# Altium schematic symbol library LM5071.SchLib: 1 symbol
Pins are listed as number, name and electrical type; pins without a type are passive.

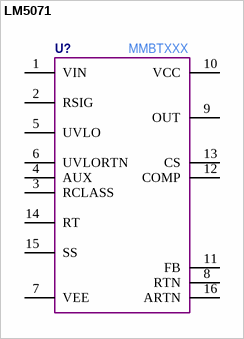
[diagram p0: symbol LM5071]

## LM5071
designator U?  Manufacturer Part Number: MMBTXXX  (hidden comment: *)
pins: 1 VIN, 2 RSIG, 3 RCLASS, 4 AUX, 5 UVLO, 6 UVLORTN, 7 VEE, 8 RTN, 9 OUT, 10 VCC, 11 FB, 12 COMP, 13 CS, 14 RT, 15 SS, 16 ARTN